# EAGLE library part MCP1501 (library progduino)
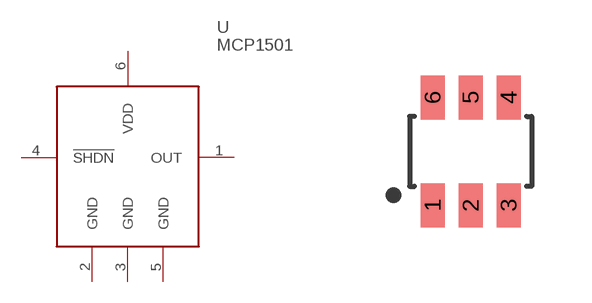
[diagram p3: symbol with the pads of SOT23-6; footprint SOT23-6]

Designator prefix -

## MCP1501  [SOT23-6]
1  OUT
2  GND
3  GND
4  !SHDN!
5  GND
6  VDD

## Footprint SOT23-6 (pad centres in mm)
smd 0.6 x 1.1: 1 -0.95,-1.35; 2 0,-1.35; 3 0.95,-1.35; 4 0.95,1.35; 5 0,1.35; 6 -0.95,1.35